# Altium footprint library 2.01-SO封装.PcbLib: 24 footprints (part 2 of 2)
Each footprint in its own frame and in the unit in brackets; x right, y up, seen from the top. Pads: shape width x height; smd on the part's side, far side on the other; paste and mask are expansions set on the pad; w line width, h text height; cw(c..) or ccw(c..) is an arc to the next point about the centre after c.
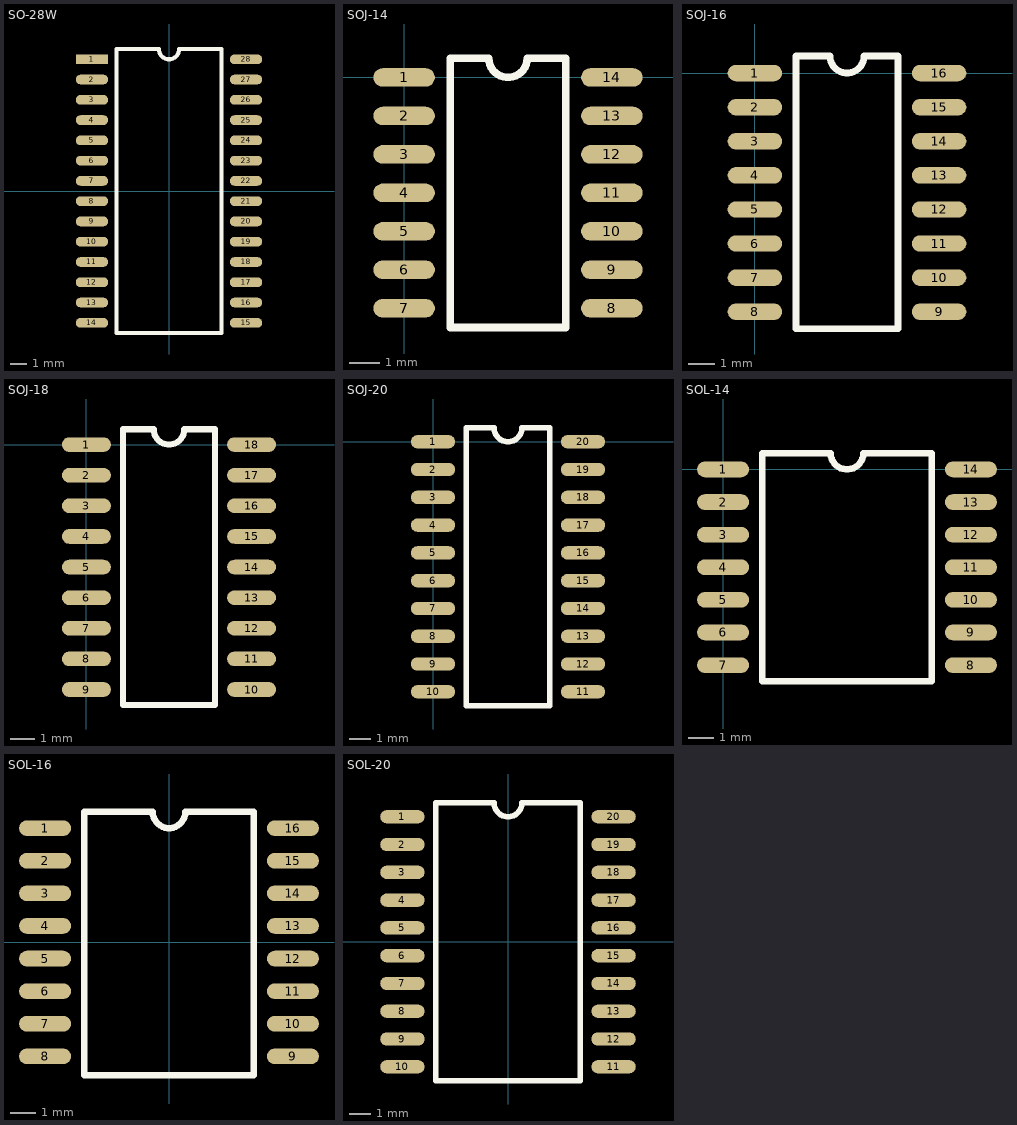
[diagram p1: the footprints below, top view; thin cyan lines are the x and y axes]

## SO-28W [mil] "封装库来自淘宝卖家 ID：黄晶宝石，其他均为盗版"
pads (28):
  rect 80x24 smd: 1(-190,325)
  oval 80x24 smd: 2(-190,275) 3(-190,225) 4(-190,175) 5(-190,125) 6(-190,75) 7(-190,25) 8(-190,-25) 9(-190,-75) 10(-190,-125) 11(-190,-175) 12(-190,-225) 13(-190,-275) 14(-190,-325) 15(190,-325) 16(190,-275) 17(190,-225) 18(190,-175) 19(190,-125) 20(190,-75) 21(190,-25) 22(190,25) 23(190,75) 24(190,125) 25(190,175) 26(190,225) 27(190,275) 28(190,325)
Top Overlay:
  lines w10: -130,-350 -130,350 -25,350 ccw(c0,350) 25,350 130,350 130,-350 -130,-350
3D body: height 106.3, standoff 0.03, extent -202.86,-352.35 202.87,352.37

## SOJ-14 [mil] "封装库来自淘宝卖家 ID：黄晶宝石，其他均为盗版"
pads (14):
  oval 80x24 smd: 1(0,0) 2(0,-50) 3(0,-100) 4(0,-150) 5(0,-200) 6(0,-250) 7(0,-300) 8(270,-300) 9(270,-250) 10(270,-200) 11(270,-150) 12(270,-100) 13(270,-50) 14(270,0)
Top Overlay:
  lines w10: 60,-325 210,-325 210,25 160,25 cw(c135,25) 110,25 60,25 60,-325

## SOJ-16 [mil] "封装库来自淘宝卖家 ID：黄晶宝石，其他均为盗版"
pads (16):
  oval 80x24 smd: 1(0,0) 2(0,-50) 3(0,-100) 4(0,-150) 5(0,-200) 6(0,-250) 7(0,-300) 8(0,-350) 9(270,-350) 10(270,-300) 11(270,-250) 12(270,-200) 13(270,-150) 14(270,-100) 15(270,-50) 16(270,0)
Top Overlay:
  lines w10: 60,-375 210,-375 210,25 160,25 cw(c135,25) 110,25 60,25 60,-375

## SOJ-18 [mil] "封装库来自淘宝卖家 ID：黄晶宝石，其他均为盗版"
pads (18):
  oval 80x24 smd: 1(0,0) 2(0,-50) 3(0,-100) 4(0,-150) 5(0,-200) 6(0,-250) 7(0,-300) 8(0,-350) 9(0,-400) 10(270,-400) 11(270,-350) 12(270,-300) 13(270,-250) 14(270,-200) 15(270,-150) 16(270,-100) 17(270,-50) 18(270,0)
Top Overlay:
  lines w10: 60,-425 60,25 110,25 ccw(c135,25) 160,25 210,25 210,-425 60,-425

## SOJ-20 [mil] "封装库来自淘宝卖家 ID：黄晶宝石，其他均为盗版"
pads (20):
  oval 80x24 smd: 1(0,0) 2(0,-50) 3(0,-100) 4(0,-150) 5(0,-200) 6(0,-250) 7(0,-300) 8(0,-350) 9(0,-400) 10(0,-450) 11(270,-450) 12(270,-400) 13(270,-350) 14(270,-300) 15(270,-250) 16(270,-200) 17(270,-150) 18(270,-100) 19(270,-50) 20(270,0)
Top Overlay:
  lines w10: 60,-475 60,25 110,25 ccw(c135,25) 160,25 210,25 210,-475 60,-475

## SOL-14 [mil] "封装库来自淘宝卖家 ID：黄晶宝石，其他均为盗版"
pads (14):
  oval 80x24 smd: 1(0,0) 2(0,-50) 3(0,-100) 4(0,-150) 5(0,-200) 6(0,-250) 7(0,-300) 8(380,-300) 9(380,-250) 10(380,-200) 11(380,-150) 12(380,-100) 13(380,-50) 14(380,0)
Top Overlay:
  lines w10: 60,-325 60,25 165,25 ccw(c190,25) 215,25 320,25 320,-325 60,-325

## SOL-16 [mil] "封装库来自淘宝卖家 ID：黄晶宝石，其他均为盗版"
pads (16):
  oval 80x24 smd: 1(-190,175) 2(-190,125) 3(-190,75) 4(-190,25) 5(-190,-25) 6(-190,-75) 7(-190,-125) 8(-190,-175) 9(190,-175) 10(190,-125) 11(190,-75) 12(190,-25) 13(190,25) 14(190,75) 15(190,125) 16(190,175)
Top Overlay:
  lines w10: -130,-204 -130,200 -25,200 ccw(c0,200) 25,200 130,200 130,-204 -130,-204
3D body: height 106.3, standoff 0.03, extent -202.86,-202.75 202.87,202.76

## SOL-20 [mil] "封装库来自淘宝卖家 ID：黄晶宝石，其他均为盗版"
pads (20):
  oval 80x24 smd: 1(-190,225) 2(-190,175) 3(-190,125) 4(-190,75) 5(-190,25) 6(-190,-25) 7(-190,-75) 8(-190,-125) 9(-190,-175) 10(-190,-225) 11(190,-225) 12(190,-175) 13(190,-125) 14(190,-75) 15(190,-25) 16(190,25) 17(190,75) 18(190,125) 19(190,175) 20(190,225)
Top Overlay:
  lines w10: -130,-250 -130,250 -25,250 ccw(c0,250) 25,250 130,250 130,-250 -130,-250
3D body: height 106.3, standoff 0.03, extent -202.86,-249.99 202.87,250.01